# EAGLE library part TCA6507-BOTTOM (library me)
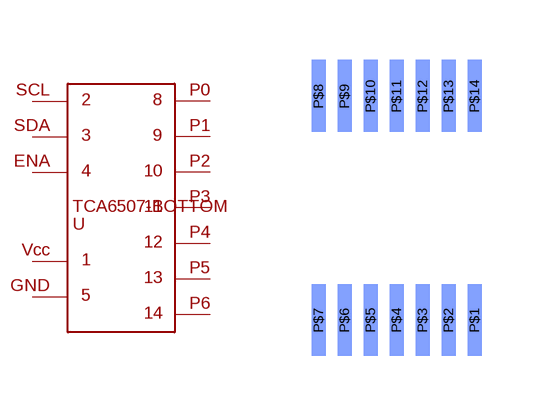
[diagram p6: symbol with the pads of TSSOP-14-BOTTOM; footprint TSSOP-14-BOTTOM]

Designator prefix U

## TCA6507-BOTTOM  [TSSOP-14-BOTTOM]
P$1  P$1
P$2  P$2
P$3  P$3
P$4  P$4
P$5  P$5
P$8  P$8
P$9  P$9
P$10  P$10
P$11  P$11
P$12  P$12
P$13  P$13
P$14  P$14

## Footprint TSSOP-14-BOTTOM (pad centres in mm)
smd 0.35 x 1.8 bottom: P$1 1.95,-2.8; P$2 1.3,-2.8; P$3 0.65,-2.8; P$4 0,-2.8; P$5 -0.65,-2.8; P$6 -1.3,-2.8; P$7 -1.95,-2.8; P$8 -1.95,2.8; P$9 -1.3,2.8; P$10 -0.65,2.8; P$11 0,2.8; P$12 0.65,2.8; P$13 1.3,2.8; P$14 1.95,2.8